# Altium footprint library WFDFN-10-thermal.PcbLib: 1 footprints
Each footprint in its own frame and in the unit in brackets; x right, y up, seen from the top. Pads: shape width x height; smd on the part's side, far side on the other; paste and mask are expansions set on the pad; w line width, h text height; cw(c..) or ccw(c..) is an arc to the next point about the centre after c.
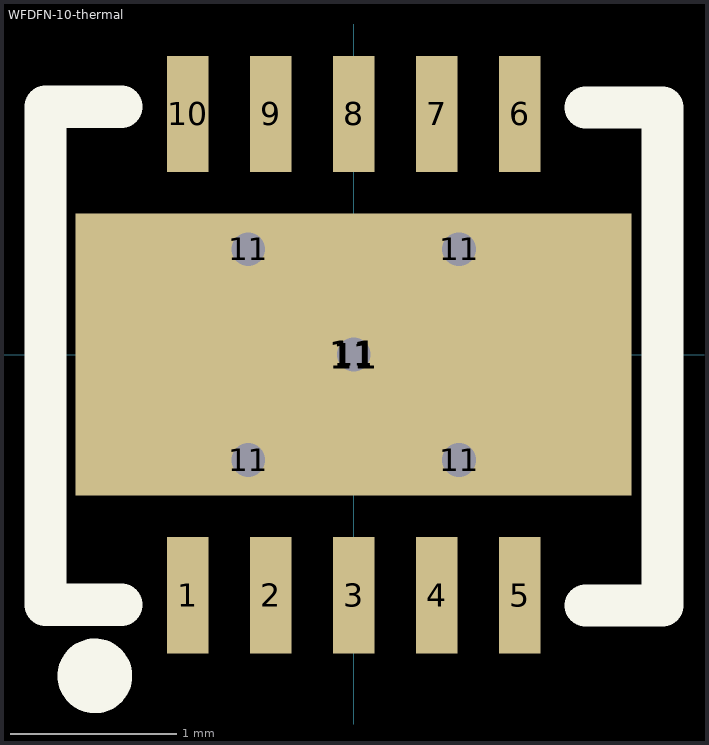
[diagram p0: the footprint, top view; thin cyan lines are the x and y axes]

## WFDFN-10-thermal [mm]
pads (16):
  rect 0.25x0.7 smd: 1(-1,-1.45) 2(-0.5,-1.45) 3(0,-1.45) 4(0.5,-1.45) 5(1,-1.45) 6(1,1.45) 7(0.5,1.45) 8(0,1.45) 9(-0.5,1.45) 10(-1,1.45)
  round 0.305 hole 0.203: 11(-0.635,-0.635) 11(-0.635,0.635) 11(0,0) 11(0.635,-0.635) 11(0.635,0.635)
  rect 3.35x1.7 smd: 11(0,0)
Top Overlay:
  circle w0.254: c-1.559,-1.936 r0.098
  lines w0.254: -1.398,-1.507 -1.857,-1.507 -1.857,1.493 -1.398,1.493 ; 1.399,-1.512 1.861,-1.512 1.861,1.488 1.399,1.488
3D body: height 1.09, standoff 0.02, extent -1.5,-1.45 1.5,1.55